# Altium schematic symbol library DIP14 IC Socket.SchLib: 1 symbol
Pins are listed as number, name and electrical type; pins without a type are passive.

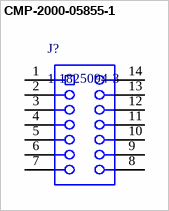
[diagram p0: symbol CMP-2000-05855-1]

## CMP-2000-05855-1
designator J?, comment 1-1825094-3
Socket, Pitch 2.54 mm, 2 x 7 Position, Height 5.3594 mm, Tail Length 3.2512 mm, RoHS, Rail/Tube; Manufacturer: TE Connectivity; Gender: SKT; Pitch (mm): 2.54mm; Product Height (mm): 5.35mm; Grid Size: NotRequired; Product Depth (mm): 10mm; Number of Contact Rows: 2; Product Length (mm): 17.65mm; Body Orientation: Straight; Insulation Resistance: 10Gohm; Number of Contacts: 14POS; Contact Resistance Max: 30mOhm; Type: DIPSocket; Package Description: Socket, Pitch 2.54 mm, 2 x 7 Position, Height 5.3594 mm, Tail Length 3.2512 mm; Datasheet URL: https://datasheet.ciiva.com/30494/0900766b8121ebe6-30494605.pdf; Manufacturer URL: http://www.te.com/; Contact Material: BerylliumCopper; Datasheet Version: Rev. A1, 03/2011; Contact Plating: GoldOverNickel; Mounting Technology: ThroughHole; Insulation Material: Thermoplastic; Packaging: Tube; Package Reference: 1-1825094-3; Mounting Style: ThroughHole
footprint TECO-1-1825094-3_V (Socket, 14-Leads, Body 17.653x10.0076mm, Pitch 2.54mm)
pins: 1, 2, 3, 4, 5, 6, 7, 8, 9, 10, 11, 12, 13, 14